# EAGLE library part ATMEGA32U4-AUR (library ATMEGA32U4-AUR)
8-bit Microcontrollers - MCU USB 32K Flash 16 MHz Source: Datasheet <http://www.farnell.com/datasheets/2047909.pdf>
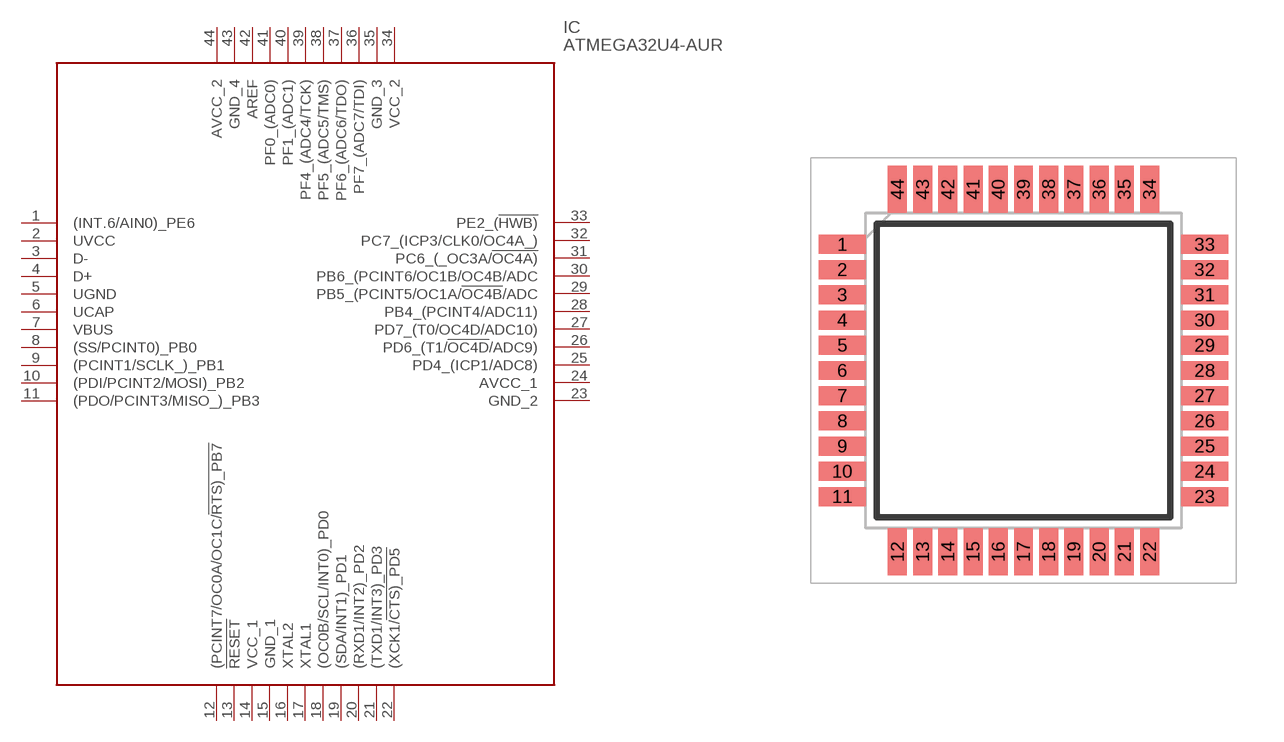
[diagram p0: symbol with the pads of QFP80P1200X1200X120-44N; footprint QFP80P1200X1200X120-44N]

Designator prefix IC

## ATMEGA32U4-AUR (Arrow_Part_Number: ATMEGA32U4-AUR; Arrow_Price-Stock: https://www.arrow.com/en/products/atmega32u4-aur/microchip-technology; Description: 8-bit Microcontrollers - MCU USB 32K Flash 16 MHz; Height: 1.2mm; Manufacturer_Name: Microchip; Manufacturer_Part_Number: ATMEGA32U4-AUR; Mouser_Part_Number: 556-ATMEGA32U4-AUR; Mouser_Price-Stock: https://www.mouser.co.uk/ProductDetail/Microchip-Technology-Atmel/ATMEGA32U4-AUR?qs=rBGENRD8NwIbVIAimLns%252BA%3D%3D)  [QFP80P1200X1200X120-44N]
1  (INT.6/AIN0)_PE6
2  UVCC
3  D-
4  D+
5  UGND
6  UCAP
7  VBUS
8  (SS/PCINT0)_PB0
9  (PCINT1/SCLK_)_PB1
10  (PDI/PCINT2/MOSI)_PB2
11  (PDO/PCINT3/MISO_)_PB3
12  (PCINT7/OC0A/OC1C/!RTS)_PB7
13  !RESET
14  VCC_1
15  GND_1
16  XTAL2
17  XTAL1
18  (OC0B/SCL/INT0)_PD0
19  (SDA/INT1)_PD1
20  (RXD1/INT2)_PD2
21  (TXD1/INT3)_PD3
22  (XCK1/!CTS)_PD5
23  GND_2
24  AVCC_1
25  PD4_(ICP1/ADC8)
26  PD6_(T1/!OC4D!/ADC9)
27  PD7_(T0/OC4D/ADC10)
28  PB4_(PCINT4/ADC11)
29  PB5_(PCINT5/OC1A/!OC4B!/ADC
30  PB6_(PCINT6/OC1B/OC4B/ADC
31  PC6_(_OC3A/!OC4A)
32  PC7_(ICP3/CLK0/OC4A_)
33  PE2_(!HWB)
34  VCC_2
35  GND_3
36  PF7_(ADC7/TDI)
37  PF6_(ADC6/TDO)
38  PF5_(ADC5/TMS)
39  PF4_(ADC4/TCK)
40  PF1_(ADC1)
41  PF0_(ADC0)
42  AREF
43  GND_4
44  AVCC_2

## Footprint QFP80P1200X1200X120-44N (pad centres in mm)
44ML*-*-
smd 1.5 x 0.6: 1 -5.75,4; 2 -5.75,3.2; 3 -5.75,2.4; 4 -5.75,1.6; 5 -5.75,0.8; 6 -5.75,0; 7 -5.75,-0.8; 8 -5.75,-1.6; 9 -5.75,-2.4; 10 -5.75,-3.2; 11 -5.75,-4; 23 5.75,-4; 24 5.75,-3.2; 25 5.75,-2.4; 26 5.75,-1.6; 27 5.75,-0.8; 28 5.75,0; 29 5.75,0.8; 30 5.75,1.6; 31 5.75,2.4; 32 5.75,3.2; 33 5.75,4
smd 0.6 x 1.5: 12 -4,-5.75; 13 -3.2,-5.75; 14 -2.4,-5.75; 15 -1.6,-5.75; 16 -0.8,-5.75; 17 0,-5.75; 18 0.8,-5.75; 19 1.6,-5.75; 20 2.4,-5.75; 21 3.2,-5.75; 22 4,-5.75; 34 4,5.75; 35 3.2,5.75; 36 2.4,5.75; 37 1.6,5.75; 38 0.8,5.75; 39 0,5.75; 40 -0.8,5.75; 41 -1.6,5.75; 42 -2.4,5.75; 43 -3.2,5.75; 44 -4,5.75